# EAGLE library part FDS8984 (library ANIMAlib)
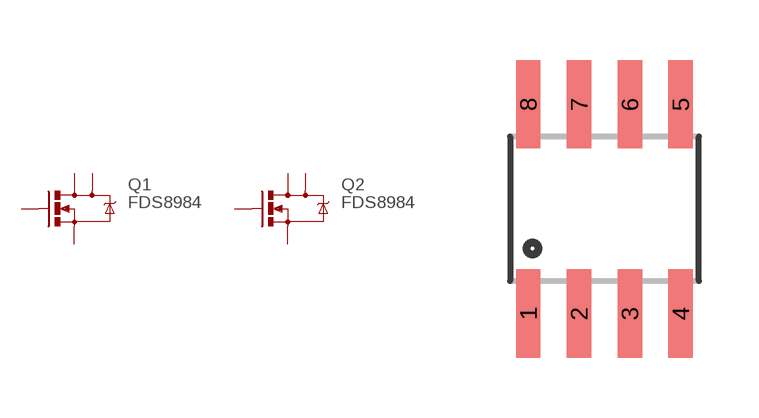
[diagram p16: symbol with the pads of SO08; footprint SO08]

Designator prefix Q; gates 1=MOSFET-NCHANNEL-DUAL_DRAIN 2=MOSFET-NCHANNEL-DUAL_DRAIN

## FDS8984  [SO08]
1  1:S  pas
2  1:G  pas
3  2:S  pas
4  2:G  pas
5  2:D  pas
6  2:D  pas
7  1:D  pas
8  1:D  pas

## Footprint SO08 (pad centres in mm)
Small Outline Package Fits JEDEC packages (narrow SOIC-8)
smd 0.61 x 2.21: 1 -1.905,-2.616; 2 -0.635,-2.616; 3 0.635,-2.616; 4 1.905,-2.616; 5 1.905,2.616; 6 0.635,2.616; 7 -0.635,2.616; 8 -1.905,2.616